# Altium schematic symbol library gost_lib_UGO.SchLib: 31 symbols
Pins are listed as number, name and electrical type; pins without a type are passive.

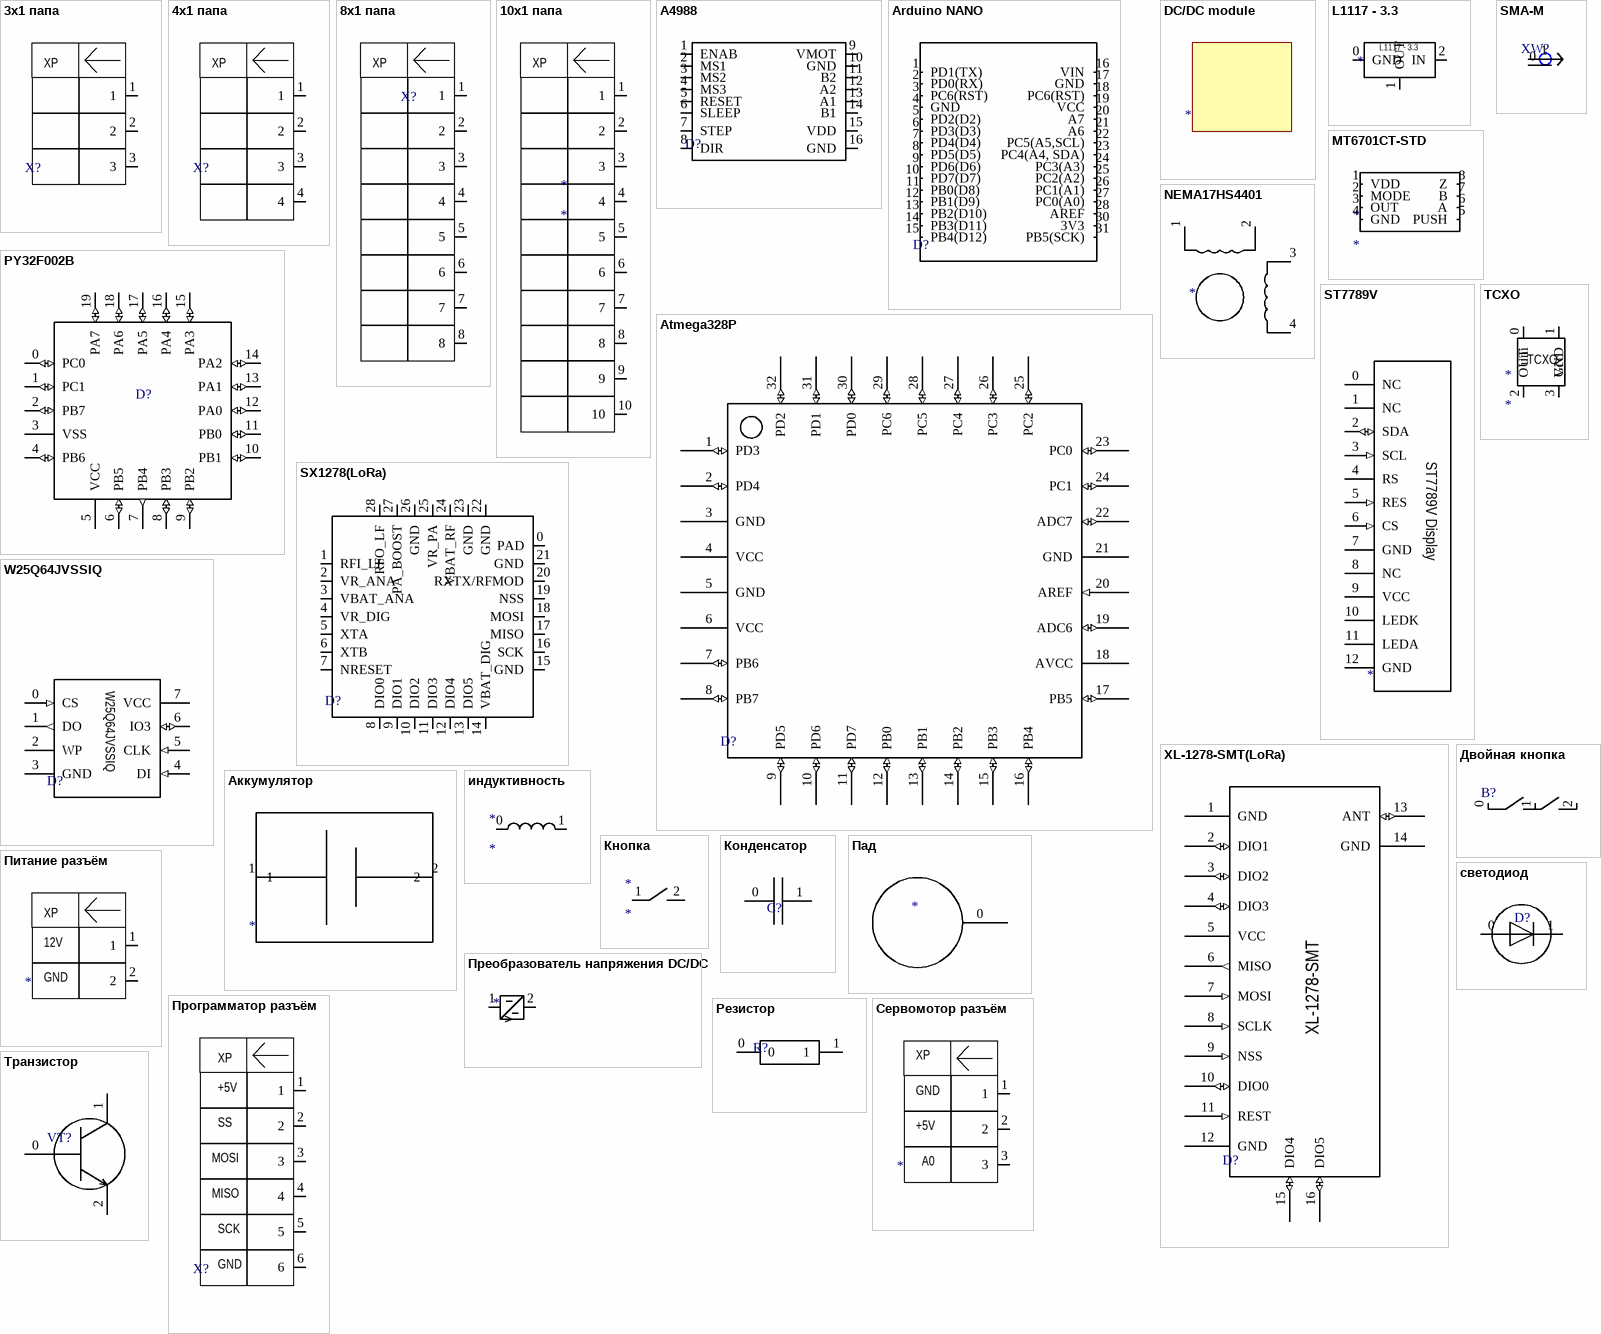
[diagram p0: symbols 3х1 папа to Транзистор]

## 3х1 папа
designator X?
Разъём
footprint Разъём 3х1 папа
pins: 1, 2, 3
text: XP

## 4х1 папа
designator X?
Разъём
footprint NEMA17 разъём
pins: 1, 2, 3, 4
text: XP

## 8х1 папа
designator X?
Разъём
footprint Разъём 8х1 папа
pins: 1, 2, 3, 4, 5, 6, 7, 8
text: XP

## 10x1 папа
designator *
footprint Разъём 10х1 папа
pins: 1, 2, 3, 4, 5, 6, 7, 8, 9, 10
text: XP

## A4988
designator D?
Драйвер для шаговых моторов
footprint A4988 разъём
pins: 1 ENAB (in), 2 MS1 (in), 3 MS2 (in), 4 MS3 (in), 5 RESET (in), 6 SLEEP (in), 7 STEP (in), 8 DIR (in), 9 VMOT (power), 10 GND (power), 11 B2 (out), 12 A2 (out), 13 A1 (out), 14 B1 (out), 15 VDD (power), 16 GND (power)

## Arduino NANO
designator D?
Разъём
footprint Arduino nano разъём
pins: 1 PD1(TX), 2 PD0(RX), 3 PC6(RST), 4 GND, 5 PD2(D2), 6 PD3(D3), 7 PD4(D4), 8 PD5(D5), 9 PD6(D6), 10 PD7(D7), 11 PB0(D8), 12 PB1(D9), 13 PB2(D10), 14 PB3(D11), 15 PB4(D12), 16 VIN, 17 GND, 18 PC6(RST), 19 VCC, 20 A7, 21 A6, 22 PC5(A5,SCL), 23 PC4(A4, SDA), 24 PC3(A3), 25 PC2(A2), 26 PC1(A1), 27 PC0(A0), 28 AREF, 30 3V3, 31 PB5(SCK)

## Atmega328P
designator D?
МК
footprint TQFP 32 - duplicate
pins: 1 PD3 (io), 2 PD4 (io), 3 GND (power), 4 VCC (power), 5 GND (power), 6 VCC (power), 7 PB6 (io), 8 PB7 (io), 9 PD5 (io), 10 PD6 (io), 11 PD7 (io), 12 PB0 (io), 13 PB1 (io), 14 PB2 (io), 15 PB3 (io), 16 PB4 (io), 17 PB5 (io), 18 AVCC (power), 19 ADC6 (io), 20 AREF (in), 21 GND (power), 22 ADC7 (io), 23 PC0 (io), 24 PC1 (io), 25 PC2 (io), 26 PC3 (io), 27 PC4 (io), 28 PC5 (io), 29 PC6 (io), 30 PD0 (io), 31 PD1 (io), 32 PD2 (io)

## DC/DC module
designator *

## L1117 - 3.3
designator *
Регулятор напряжения
footprint TO-252 DPACK
pins: 0 GND (power), 1 OUT (out), 2 IN (in)

## MT6701CT-STD
designator *
Инкрементарный энкодер
footprint SOP8
pins: 1 VDD, 2 MODE, 3 OUT, 4 GND, 5 PUSH, 6 A, 7 B, 8 Z

## NEMA17HS4401
designator *
Шаговый мотор
footprint NEMA17 разъём
pins: 1 (power), 2 (power), 3 (power), 4 (power)

## PY32F002B
designator D?
МК
footprint QFN20
footprint TSSOP20
pins: 0 PC0 (io), 1 PC1 (io), 2 PB7 (io), 3 VSS (power), 4 PB6 (io), 5 VCC (power), 6 PB5 (io), 7 PB4 (out), 8 PB3 (io), 9 PB2 (io), 10 PB1 (io), 11 PB0 (io), 12 PA0 (io), 13 PA1 (io), 14 PA2 (io), 15 PA3 (io), 16 PA4 (io), 17 PA5 (io), 18 PA6 (io), 19 PA7 (io)

## SMA-M
designator XW?
SMA male разъём
footprint SMA-M
pins: 0 GND, 1 pin (hiz)

## ST7789V
designator *
Дисплей
footprint ST7789 display 0,7
pins: 0 NC, 1 NC, 2 SDA (io), 3 SCL (in), 4 RS, 5 RES (in), 6 CS (in), 7 GND (power), 8 NC, 9 VCC (power), 10 LEDK (power), 11 LEDA (power), 12 GND (power)
text: ST7789V Display

## SX1278(LoRa)
designator D?
Чип радиомодуля
footprint QFN28
pins: 0 PAD (power), 1 RFI_LF, 2 VR_ANA, 3 VBAT_ANA, 4 VR_DIG, 5 XTA, 6 XTB, 7 NRESET (in), 8 DIO0 (io), 9 DIO1 (io), 10 DIO2 (io), 11 DIO3 (io), 12 DIO4 (io), 13 DIO5 (io), 14 VBAT_DIG, 15 GND, 16 SCK (in), 17 MISO (out), 18 MOSI (in), 19 NSS (in), 20 RXTX/RFMOD, 21 GND (power), 22 GND (power), 23 GND (power), 24 VBAT_RF, 25 VR_PA, 26 GND (power), 27 PA_BOOST, 28 RFO_LF

## TCXO
designator *
footprint TCXO
pins: 0 uni, 1 GND, 2 OUT, 3 Vcc

## W25Q64JVSSIQ
designator D?
Флэш-память
footprint sop8(5.2 x 5.2)
pins: 0 CS (in), 1 DO (out), 2 WP, 3 GND (power), 4 DI (in), 5 CLK (in), 6 IO3 (io), 7 VCC (power)

## XL-1278-SMT(LoRa)
designator D?
Радиомодуль
footprint XL 1278
footprint SX1278_V1.2
pins: 1 GND (power), 2 DIO1 (io), 3 DIO2 (io), 4 DIO3 (io), 5 VCC (power), 6 MISO (out), 7 MOSI (in), 8 SCLK (in), 9 NSS (in), 10 DIO0 (io), 11 REST (in), 12 GND (power), 13 ANT (io), 14 GND (power), 15 DIO4 (io), 16 DIO5 (io)
text: XL-1278-SMT

## Аккумулятор
designator *
pins: 1 (power), 2 (power)

## Двойная кнопка
designator B?
footprint dibutton
pins: 0, 1, 2

## индуктивность
designator *
footprint индуктивность
pins: 0, 1

## Кнопка
designator *
footprint Button
pins: 1 4, 2 5

## Конденсатор
designator C?
footprint 0603 cap
footprint 0402 cap
footprint 0805 cap
footprint capacitor 4.7 uF
pins: 0, 1

## Пад
designator *
footprint pad
pins: 0 in

## Питание разъём
designator *
footprint Питание разъём
pins: 1, 2
text: XP; 12V; GND

## Преобразователь напряжения DC/DC
designator *
pins: 1, 2

## Программатор разъём
designator X?
footprint Программатор разъём
pins: 1, 2, 3, 4, 5, 6
text: XP; +5V; SS; MOSI; MISO; SCK; GND

## Резистор
designator R?
footprint 0402 res
footprint 0603 res
footprint 0805 res
pins: 0, 1

## светодиод
designator D?
footprint 0402 res
footprint 0603 res
footprint 0805 res
pins: 0 2, 1 3

## Сервомотор разъём
designator *
footprint Разъём 3х1 папа
pins: 1, 2, 3
text: XP; GND; +5V; A0

## Транзистор
designator VT?
pins: 0, 1, 2